# Altium schematic symbol library SN74LV4051ARGYR.SchLib: 1 symbol
Pins are listed as number, name and electrical type; pins without a type are passive.

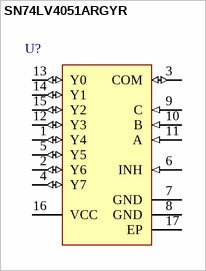
[diagram p0: symbol SN74LV4051ARGYR]

## SN74LV4051ARGYR
designator U?
pins: 1 Y4 (io), 2 Y6 (io), 3 COM (io), 4 Y7 (io), 5 Y5 (io), 6 INH (in), 7 GND (power), 8 GND (power), 9 C (in), 10 B (in), 11 A (in), 12 Y3 (io), 13 Y0 (io), 14 Y1 (io), 15 Y2 (io), 16 VCC, 17 EP (power)